# EAGLE library part LTC1050CS8 (library IntegratedLib)
AMPOP de precisao com capacitores internos (SOIC-8)
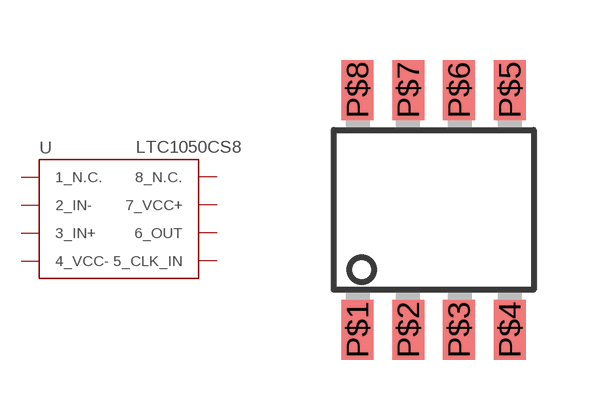
[diagram p11: symbol with the pads of SOIC-8; footprint SOIC-8]

Designator prefix U

## LTC1050CS8 (FABRICANTE: LINEAR; PARTNUMBER: LTC1050; TIPO: CIRCUITO INTEGRADO)  [SOIC-8]
P$1  1_N.C.
P$2  2_IN-
P$3  3_IN+
P$4  4_VCC-
P$5  5_CLK_IN
P$6  6_OUT
P$7  7_VCC+
P$8  8_N.C.

## Footprint SOIC-8 (pad centres in mm)
smd 0.8 x 1.5: P$1 -1.905,-3; P$2 -0.635,-3; P$3 0.635,-3; P$4 1.905,-3; P$5 1.905,3; P$6 0.635,3; P$7 -0.635,3; P$8 -1.905,3